# EAGLE library part MC34673AEPR2 (library Battery Chargers)
Charger IC Lithium Ion/Polymer 8-UDFN (3x2) Manufacturer's datasheet <https://www.nxp.com/docs/en/data-sheet/MC34673.pdf>
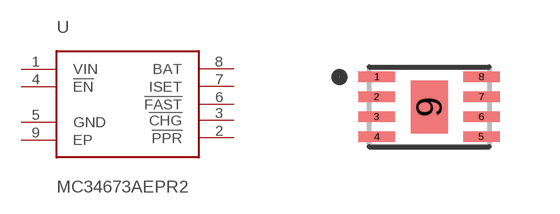
[diagram p20: symbol with the pads of MC34673AEPR2; footprint MC34673AEPR2]

Designator prefix U

## MC34673AEPR2 (CREATED_BY: PCBLayout.com; DIGIKEY_PART_NUMBER: MC34673AEPR2CT-ND; MANUFACTURER: NXP USA Inc.; MPN: MC34673AEPR2; PACKAGE: 8-UDFN)  [MC34673AEPR2]
1  VIN  in
2  !PPR  out
3  !CHG  out
4  !EN  in
5  GND  pwr
6  !FAST  out
7  ISET  out
8  BAT  out
9  EP  pwr

## Footprint MC34673AEPR2 (pad centres in mm)
smd 0.91 x 0.26: 1 -1.31,0.75; 2 -1.31,0.25; 3 -1.31,-0.25; 4 -1.31,-0.75; 5 1.31,-0.75; 6 1.31,-0.25; 7 1.31,0.25; 8 1.31,0.75
smd 0.925 x 1.325: 9 0,0